# Altium footprint library Misc Connector USB.PcbLib: 2 footprints
Each footprint in its own frame and in the unit in brackets; x right, y up, seen from the top. Pads: shape width x height; smd on the part's side, far side on the other; paste and mask are expansions set on the pad; w line width, h text height; cw(c..) or ccw(c..) is an arc to the next point about the centre after c.
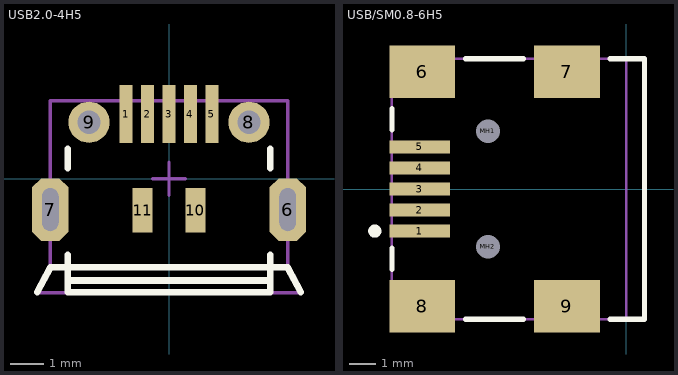
[diagram p0: the footprints below, top view; thin cyan lines are the x and y axes]

## USB2.0-4H5 [mm] "USB Micro B, 0.65mm Pitch, 4 holes"
height 8
pads (11):
  rect 0.4x1.75 smd: 1(-1.3,1.962) 2(-0.65,1.962) 3(0,1.962) 4(0.65,1.962) 5(1.3,1.962)
  oct 1.1x1.9 hole 0.5 slot 1.3 at 90 deg: 6(3.6,-0.938) 7(-3.6,-0.938)
  round 1.25 hole 0.7: 8(2.425,1.712) 9(-2.425,1.712)
  rect 0.6x1.35 smd: 10(0.8,-0.963) 11(-0.8,-0.963)
Top Overlay:
  lines w0.2: -4,-3.45 -3.6,-2.688 3.6,-2.688 4,-3.45 ; -3.075,-3.088 3.075,-3.088 ; -3.075,-2.307 -3.075,-3.45 3.075,-3.45 3.075,-2.307 ; -3.075,0.312 -3.075,0.912 ; 3.075,0.312 3.075,0.912 ; 3.45,-2.688 3.5,-2.688
Mechanical 13:
  lines w0.1: -3.6,-2.7 -4,-3.462 4,-3.462 3.6,-2.7 ; -3.6,-2.7 -3.6,2.362 3.6,2.362 3.6,-2.7 ; -3.6,-2.7 3.6,-2.7
Mechanical 15:
  lines w0.1: -0.5,0 0.5,0 ; 0,-0.5 0,0.5
3D body: height 16, standoff 0, extent -3.6,-2.688 3.6,2.362
3D body: height 16, standoff 0, extent -4,-3.462 4,-2.7

## USB/SM0.8-6H5 [mm] "Connector; USB2.0, Type B, SM; 5 Position; Right Angle"
height 3.9
pads (11):
  rect 2.3x0.5 smd: 1(-7.85,-1.6) 2(-7.85,-0.8) 3(-7.85,0) 4(-7.85,0.8) 5(-7.85,1.6)
  rect 2.5x2 smd: 6(-7.75,4.45) 7(-2.25,4.45) 8(-7.75,-4.45) 9(-2.25,-4.45)
  round 0.6 hole 0.9 unplated: MH1(-5.25,2.2) MH2(-5.25,-2.2)
Top Overlay:
  circle w0.25: c-9.55,-1.6 r0.125
  lines w0.2: -8.9,-3.05 -8.9,-2.25 ; -8.9,2.25 -8.9,3.05 ; -6.1,-4.95 -3.9,-4.95 ; -6.1,4.95 -3.9,4.95 ; -0.6,-4.95 0.7,-4.95 0.7,4.95 -0.6,4.95
Mechanical 1:
  lines w0.1: 0,-4.95 0,4.95
  text "PCB Edge" at 0.432,-4.036 h0.25
Mechanical 13:
  lines w0.1: -8.9,-4.95 0.7,-4.95 0.7,4.95 -8.9,4.95 -8.9,-4.95
3D body: height 3.9, standoff 0, extent -8.9,-4.95 0.7,4.95